# Altium schematic symbol library Connectors.SchLib: 27 symbols
Pins are listed as number, name and electrical type; pins without a type are passive.

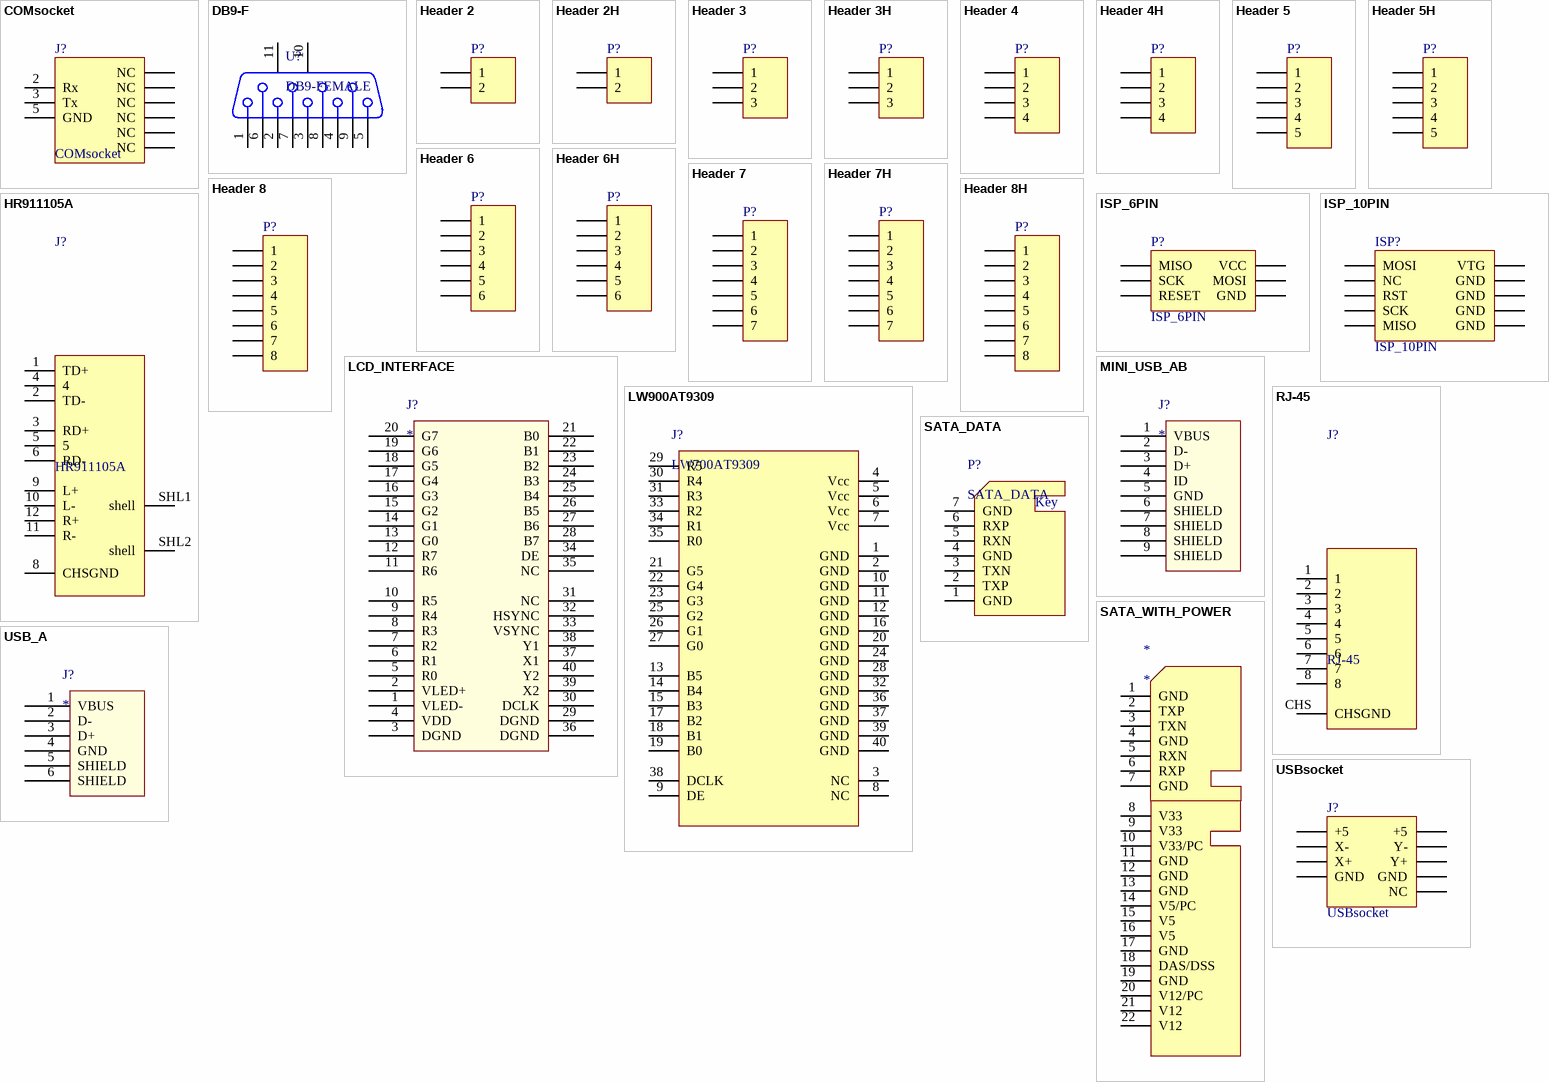
[diagram p0: symbols COMsocket to USBsocket]

## COMsocket
designator J?
9pin COM socket; LatestRevisionDate: 17-Jul-2002; LatestRevisionNote: Re-released for DXP Platform.; Publisher: Altium Limited
signal-integrity model Connector
footprint COM_socket_SMD (surface mount 9pin serial COM socket)
pins: 1 NC, 2 Rx, 3 Tx, 4 NC, 5 GND, 6 NC, 7 NC, 8 NC, 9 NC

## DB9-F
designator U?, comment DB9-FEMALE
DB-9 Female Connector
footprint DB9-F-H
footprint DB9-F-V
pins: 1, 2, 3, 4, 5, 6, 7, 8, 9, 10 MH1, 11 MH2

## Header 2
designator P?
Header, 2-Pin; LatestRevisionDate: 17-Jul-2002; LatestRevisionNote: Re-released for DXP Platform.; Publisher: Altium Limited
footprint HDR1X2 (Connector; Header; 2 Position)
signal-integrity model Connector
pins: 1, 2

## Header 2H
designator P?
Header, 2-Pin, Right Angle; LatestRevisionDate: 17-Jul-2002; LatestRevisionNote: Re-released for DXP Platform.; Publisher: Altium Limited
footprint HDR1X2H (Connector; Header; 2 Position; Right Angle)
signal-integrity model Connector
pins: 1, 2

## Header 3
designator P?
Header, 3-Pin; LatestRevisionDate: 17-Jul-2002; LatestRevisionNote: Re-released for DXP Platform.; Publisher: Altium Limited
footprint HDR1X3 (Connector; Header; 3 Position)
signal-integrity model Connector
pins: 1, 2, 3

## Header 3H
designator P?
Header, 3-Pin, Right Angle; LatestRevisionDate: 17-Jul-2002; LatestRevisionNote: Re-released for DXP Platform.; Publisher: Altium Limited
footprint HDR1X3H (Connector; Header; 3 Position; Right Angle)
signal-integrity model Connector
pins: 1, 2, 3

## Header 4
designator P?
Header, 4-Pin; LatestRevisionDate: 17-Jul-2002; LatestRevisionNote: Re-released for DXP Platform.; Publisher: Altium Limited
footprint HDR1X4 (Connector; Header; 4 Position)
signal-integrity model Connector
pins: 1, 2, 3, 4

## Header 4H
designator P?
Header, 4-Pin, Right Angle; LatestRevisionDate: 17-Jul-2002; LatestRevisionNote: Re-released for DXP Platform.; Publisher: Altium Limited
footprint HDR1X4H (Connector; Header; 4 Position; Right Angle)
signal-integrity model Connector
pins: 1, 2, 3, 4

## Header 5
designator P?
Header, 5-Pin; LatestRevisionDate: 17-Jul-2002; LatestRevisionNote: Re-released for DXP Platform.; Publisher: Altium Limited
footprint HDR1X5 (Connector; Header; 5 Position)
signal-integrity model Connector
pins: 1, 2, 3, 4, 5

## Header 5H
designator P?
Header, 5-Pin, Right Angle; LatestRevisionDate: 17-Jul-2002; LatestRevisionNote: Re-released for DXP Platform.; Publisher: Altium Limited
footprint HDR1X5H (Connector; Header; 5 Position; Right Angle)
signal-integrity model Connector
pins: 1, 2, 3, 4, 5

## Header 6
designator P?
Header, 6-Pin; LatestRevisionDate: 17-Jul-2002; LatestRevisionNote: Re-released for DXP Platform.; Publisher: Altium Limited
footprint HDR1X6 (Connector; Header; 6 Position)
signal-integrity model Connector
pins: 1, 2, 3, 4, 5, 6

## Header 6H
designator P?
Header, 6-Pin, Right Angle; LatestRevisionDate: 17-Jul-2002; LatestRevisionNote: Re-released for DXP Platform.; Publisher: Altium Limited
footprint HDR1X6H (Connector; Header; 6 Position; Right Angle)
signal-integrity model Connector
pins: 1, 2, 3, 4, 5, 6

## Header 7
designator P?
Header, 7-Pin; LatestRevisionDate: 17-Jul-2002; LatestRevisionNote: Re-released for DXP Platform.; Publisher: Altium Limited
footprint HDR1X7 (Connector; Header; 7 Position)
signal-integrity model Connector
pins: 1, 2, 3, 4, 5, 6, 7

## Header 7H
designator P?
Header, 7-Pin, Right Angle; LatestRevisionDate: 17-Jul-2002; LatestRevisionNote: Re-released for DXP Platform.; Publisher: Altium Limited
footprint HDR1X7H (Connector; Header; 7 Position; Right Angle)
signal-integrity model Connector
pins: 1, 2, 3, 4, 5, 6, 7

## Header 8
designator P?
Header, 8-Pin; LatestRevisionDate: 17-Jul-2002; LatestRevisionNote: Re-released for DXP Platform.; Publisher: Altium Limited
footprint HDR1X8 (Connector; Header; 8 Position)
signal-integrity model Connector
pins: 1, 2, 3, 4, 5, 6, 7, 8

## Header 8H
designator P?
Header, 8-Pin, Right Angle; LatestRevisionDate: 17-Jul-2002; LatestRevisionNote: Re-released for DXP Platform.; Publisher: Altium Limited
footprint HDR1X8H (Connector; Header; 8 Position; Right Angle)
signal-integrity model Connector
pins: 1, 2, 3, 4, 5, 6, 7, 8

## HR911105A
designator J?
Hanrun
footprint HR911105A (HR911105A 带网络变压器及LED的一体化RJ45插座)
pins: 1 TD+, 2 TD-, 3 RD+, 4, 5, 6 RD-, 8 CHSGND, 9 L+, 10 L-, 11 R-, 12 R+, SHL1 shell, SHL2 shell

## ISP_6PIN
designator P?
LatestRevisionDate: 17-Jul-2002; LatestRevisionNote: Re-released for DXP Platform.; Publisher: Altium Limited
footprint HDR2X3 (Connector; Header; 3x2 Position)
signal-integrity model Connector
pins: 1 MISO, 2 VCC, 3 SCK, 4 MOSI, 5 RESET, 6 GND

## ISP_10PIN
designator ISP?
Header, 5-Pin, Dual row; LatestRevisionDate: 17-Jul-2002; LatestRevisionNote: Re-released for DXP Platform.; Publisher: Altium Limited
footprint HDR2X5 (Connector; Header; 5x2 Position)
signal-integrity model Connector
pins: 1 MOSI, 2 VTG, 3 NC, 4 GND, 5 RST, 6 GND, 7 SCK, 8 GND, 9 MISO, 10 GND

## LCD_INTERFACE
designator J?
footprint LCD_INTERFACE
pins: 1 VLED-, 2 VLED+, 3 DGND, 4 VDD, 5 R0, 6 R1, 7 R2, 8 R3, 9 R4, 10 R5, 11 R6, 12 R7, 13 G0, 14 G1, 15 G2, 16 G3, 17 G4, 18 G5, 19 G6, 20 G7, 21 B0, 22 B1, 23 B2, 24 B3, 25 B4, 26 B5, 27 B6, 28 B7, 29 DGND, 30 DCLK, 31 NC, 32 HSYNC, 33 VSYNC, 34 DE, 35 NC, 36 DGND, 37 X1, 38 Y1, 39 X2, 40 Y2

## LW900AT9309
designator J?, comment LW700AT9309
connector for ChiMei 7" TFT-LCD module with a LED Backlight unit
footprint FFC/SM0.5-2H40A (Connector; FH12 Series; 40 Position; 0.5mm Spaced Top Contact)
footprint FFC/SM0.5-2H40 (Connector; FH12 Series; 40 Position; 0.5mm Spaced Bottom Contact)
pins: 1 GND, 2 GND, 3 NC, 4 Vcc, 5 Vcc, 6 Vcc, 7 Vcc, 8 NC, 9 DE, 10 GND, 11 GND, 12 GND, 13 B5, 14 B4, 15 B3, 16 GND, 17 B2, 18 B1, 19 B0, 20 GND, 21 G5, 22 G4, 23 G3, 24 GND, 25 G2, 26 G1, 27 G0, 28 GND, 29 R5, 30 R4, 31 R3, 32 GND, 33 R2, 34 R1, 35 R0, 36 GND, 37 GND, 38 DCLK, 39 GND, 40 GND

## MINI_USB_AB
designator J?
MINI_USB_AB
footprint MINI_USB_AB
pins: 1 VBUS, 2 D-, 3 D+, 4 ID, 5 GND, 6 SHIELD, 7 SHIELD, 8 SHIELD, 9 SHIELD

## RJ-45
designator J?
RJ45 connector without LED or CT
footprint RJ-45
pins: 1, 2, 3, 4, 5, 6, 7, 8, CHS CHSGND

## SATA_DATA
designator P?
3M SATA 7pin Right Angle DATA Connector
footprint SATA_RtSMD (SATA 7 pin Right Angle Surface Mount Connector)
pins: 1 GND, 2 TXP, 3 TXN, 4 GND, 5 RXN, 6 RXP, 7 GND
text: Key

## SATA_WITH_POWER
designator *
footprint SATA_RtSMD (SATA 7 pin Right Angle Surface Mount Connector)
pins: 1 GND, 2 TXP, 3 TXN, 4 GND, 5 RXN, 6 RXP, 7 GND, 8 V33, 9 V33, 10 V33/PC, 11 GND, 12 GND, 13 GND, 14 V5/PC, 15 V5, 16 V5, 17 GND, 18 DAS/DSS, 19 GND, 20 V12/PC, 21 V12, 22 V12

## USB_A
designator J?
footprint USB_A
pins: 1 VBUS, 2 D-, 3 D+, 4 GND, 5 SHIELD, 6 SHIELD

## USBsocket
designator J?
2 channel usb socket; LatestRevisionDate: 17-Jul-2002; LatestRevisionNote: Re-released for DXP Platform.; Publisher: Altium Limited
signal-integrity model Connector
footprint USB_2.0_socket (socket for 2 channel usb 2.0 from pannel)
pins: 1 +5, 2 +5, 3 X-, 4 Y-, 5 X+, 6 Y+, 7 GND, 8 GND, 10 NC